# EAGLE library part 6PINJST (library 491Library)
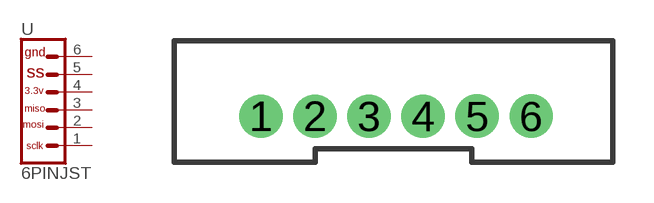
[diagram p4: symbol with the pads of JST-6-PTH-VERT; footprint JST-6-PTH-VERT]

Designator prefix -

## 6PINJST  [JST-6-PTH-VERT]
1  1  pas
2  2  pas
3  3  pas
4  4  pas
5  5  pas
6  6  pas

## Footprint JST-6-PTH-VERT (pad centres in mm)
JST Vertical 4 Pin Plated Through Hole Specifications: Pin count: 4 Pin pitch: 2mm Datasheet referenced for footprint <http://www.jst-mfg.com/product/pdf/eng/ePH.pdf> Example device(s): CONN_04
drill 0.7 pad 1.6: 1 -3,-0.55; 2 -1,-0.55; 3 1,-0.55; 4 3,-0.55; 5 4.999,-0.547; 6 6.999,-0.547